# EAGLE library part BS62LV1027TIP55 (library BSI_By_element14_Batch_1)
CMOS SRAM
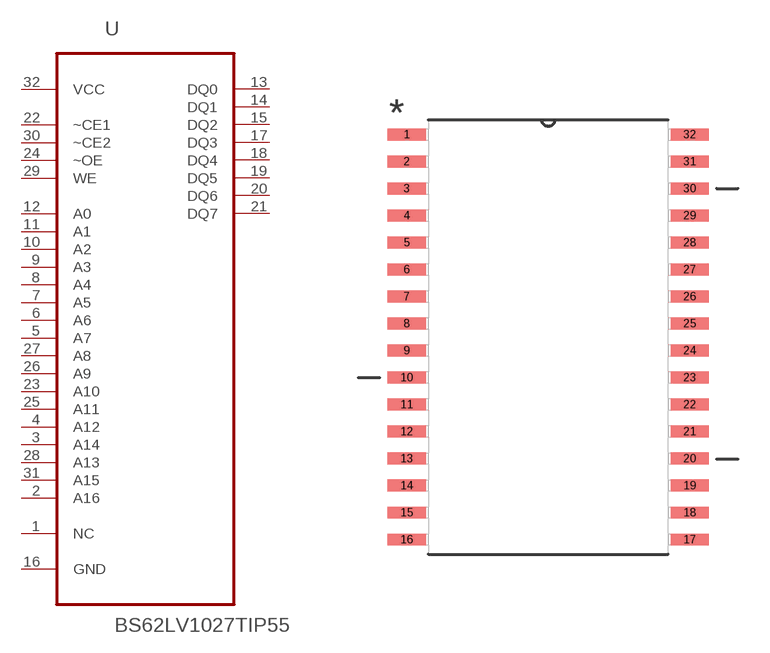
[diagram p0: symbol with the pads of SOIC127P1409X299-32N; footprint SOIC127P1409X299-32N]

Designator prefix U

## BS62LV1027TIP55 (MPN: BS62LV1027TIP55; OC_FARNELL: 1488932; OC_NEWARK: -; PACKAGE: SOIC-32; SUPPLIER: BSI (BRILLIANCE SEMICONDUCTOR))  [SOIC127P1409X299-32N]
1  NC  nc
2  A16  in
3  A14  in
4  A12  in
5  A7  in
6  A6  in
7  A5  in
8  A4  in
9  A3  in
10  A2  in
11  A1  in
12  A0  in
13  DQ0  out
14  DQ1  out
15  DQ2  out
16  GND  pas
17  DQ3  out
18  DQ4  out
19  DQ5  out
20  DQ6  out
21  DQ7  out
22  ~CE1  in
23  A10  in
24  ~OE  in
25  A11  in
26  A9  in
27  A8  in
28  A13  in
29  WE  in
30  ~CE2  in
31  A15  in
32  VCC  pwr

## Footprint SOIC127P1409X299-32N (pad centres in mm)
smd 1.803 x 0.559: 1 -6.655,9.525; 2 -6.655,8.255; 3 -6.655,6.985; 4 -6.655,5.715; 5 -6.655,4.445; 6 -6.655,3.175; 7 -6.655,1.905; 8 -6.655,0.635; 9 -6.655,-0.635; 10 -6.655,-1.905; 11 -6.655,-3.175; 12 -6.655,-4.445; 13 -6.655,-5.715; 14 -6.655,-6.985; 15 -6.655,-8.255; 16 -6.655,-9.525; 17 6.655,-9.525; 18 6.655,-8.255; 19 6.655,-6.985; 20 6.655,-5.715; 21 6.655,-4.445; 22 6.655,-3.175; 23 6.655,-1.905; 24 6.655,-0.635; 25 6.655,0.635; 26 6.655,1.905; 27 6.655,3.175; 28 6.655,4.445; 29 6.655,5.715; 30 6.655,6.985; 31 6.655,8.255; 32 6.655,9.525